# EAGLE library part SPARKFUN_SD_CARD_SOCKET (library GP_RFID_LOGGER.6.3)
SD/MMC Socket Media socket for SD and MMC cards. Push-push type. Schematic element and footprint production proven. Spark Fun Electronics SKU : PRT-00136
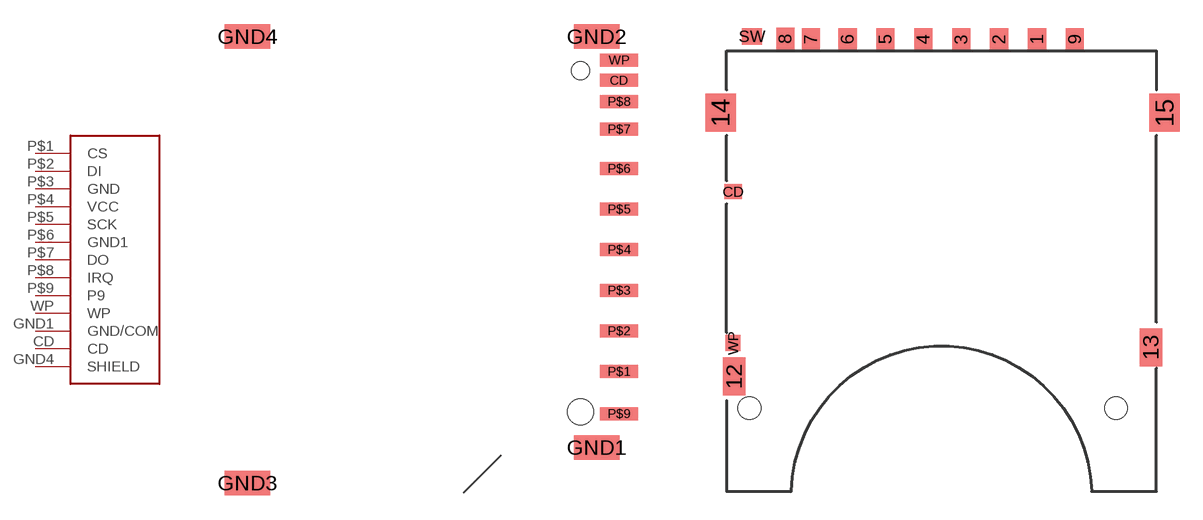
[diagram p1: symbol with the pads of SPARKFUN_SD_CARD_101_00565; footprints SPARKFUN_SD_CARD_101_00565, SPARKFUN_SD-MMC_SOCKET-PP]

Designator prefix -

## SPARKFUN_SD_CARD_SOCKET  [SPARKFUN_SD_CARD_101_00565]
CD  CD
GND1  GND/COM
GND4  SHIELD
P$1  CS
P$2  DI
P$3  GND
P$4  VCC
P$5  SCK
P$6  GND1
P$7  DO
P$8  IRQ
P$9  P9
WP  WP

## SPARKFUN_SD_CARD_SOCKETSD  [SPARKFUN_SD-MMC_SOCKET-PP]
1  CS
2  DI
3  GND
4  VCC
5  SCK
6  GND1
7  DO
8  IRQ
9  P9
14  SHIELD
CD  WP
SW  CD
WP  GND/COM

## Footprint SPARKFUN_SD_CARD_101_00565 (pad centres in mm)
smd 2.35 x 0.8: CD 12.875,11.05; P$1 12.875,-6.88; P$2 12.875,-4.38; P$3 12.875,-1.88; P$4 12.875,0.63; P$5 12.875,3.12; P$6 12.875,5.62; P$7 12.875,8.05; P$8 12.875,9.75; P$9 12.875,-9.48; WP 12.875,12.3
smd 2.8 x 1.5: GND1 11.5,-11.56; GND2 11.5,13.75; GND3 -10,-13.75; GND4 -10,13.75
hole 1.6 at 10.5,-9.38
hole 1.1 at 10.5,11.65

## Footprint SPARKFUN_SD-MMC_SOCKET-PP (pad centres in mm)
smd 1.2 x 1.5: 1 6.88,29.85; 2 4.38,29.85; 3 1.88,29.85; 4 -0.62,29.85; 5 -3.12,29.85; 6 -5.62,29.85; 7 -8.04,29.85; 8 -9.728,29.87; 9 9.38,29.85
smd 1.5 x 2.5: 12 -13.1,7.6; 13 14.402,9.525
smd 2 x 2.5: 14 -14,25; 15 15.3,25
smd 1.15 x 1: CD -13.18,19.8
smd 1.3 x 1.1: SW -11.938,30.048
smd 1 x 1.05: WP -13.18,9.8
hole 1.5 at -12.1,5.5
hole 1.5 at 12.1,5.5